# EAGLE library part 5557969-1 (library con-amp)
Modular Jackr
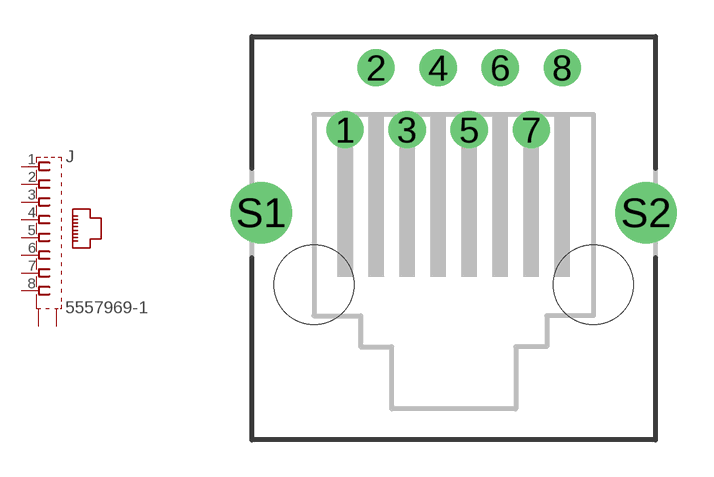
[diagram p139: symbol with the pads of 5557969-1; footprint 5557969-1]

Designator prefix J

## 5557969-1  [5557969-1]
1  1  pas
2  2  pas
3  3  pas
4  4  pas
5  5  pas
6  6  pas
7  7  pas
8  8  pas
S1  S1  pas
S2  S2  pas

## Footprint 5557969-1 (pad centres in mm)
Modular Jack Top Entry, 8-Pos, Shielded
drill 1.016: 1 -4.445,6.35; 2 -3.175,8.89; 3 -1.905,6.35; 4 -0.635,8.89; 5 0.635,6.35; 6 1.905,8.89; 7 3.175,6.35; 8 4.445,8.89
drill 1.676: S1 -7.875,2.95; S2 7.875,2.95
hole 3.251 at -5.715,0
hole 3.251 at 5.715,0